# Altium footprint library UDFN L.PcbLib: 1 footprints
Each footprint in its own frame and in the unit in brackets; x right, y up, seen from the top. Pads: shape width x height; smd on the part's side, far side on the other; paste and mask are expansions set on the pad; w line width, h text height; cw(c..) or ccw(c..) is an arc to the next point about the centre after c.
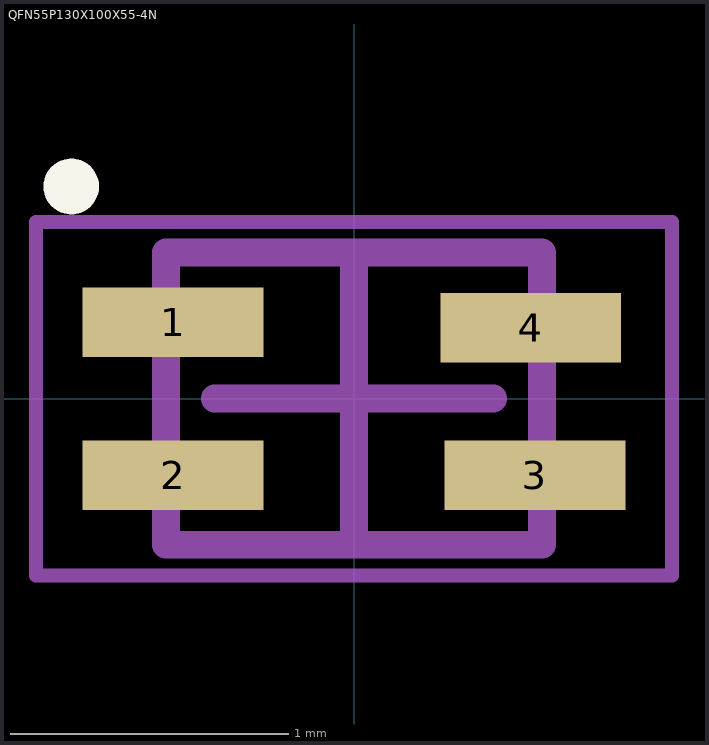
[diagram p0: the footprint, top view; thin cyan lines are the x and y axes]

## QFN55P130X100X55-4N [mm] "QFN, 4-Leads, Body 1.30x1.00mm, Pitch 0.55mm, IPC Medium Density"
height 0.55
pads (4):
  rect 0.65x0.25 smd: 1(-0.65,0.275) 2(-0.65,-0.275) 3(0.65,-0.275) 4(0.635,0.254)
Top Overlay:
  circle w0.1: c-1.016,0.762 r0.05
Mechanical 13:
  lines w0.1: -0.675,-0.525 -0.675,0.525 0.675,0.525 0.675,-0.525 -0.675,-0.525
Mechanical 15:
  lines w0.05: -1.143,-0.635 -1.143,0.635 1.143,0.635 1.143,-0.635 -1.143,-0.635
  lines w0.1: -0.5,0 0.5,0 ; 0,-0.5 0,0.5
3D body "QFN55P130X100X55-4N.step": height 0.55, standoff 0, extent -0.725,-0.525 0.725,0.525